# EAGLE library part 1-6605834-1 (library mbed-HDK-Connector)
RJ45
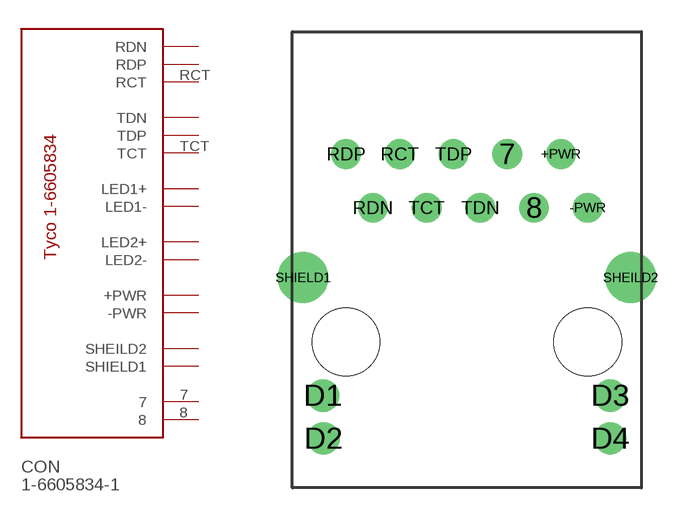
[diagram p0: symbol with the pads of TYCO-1-6605834-1; footprint TYCO-1-6605834-1]

Designator prefix CON

## 1-6605834-1 (MF: TYCO; MFN: 1-6605834-1; OC-DIGIKEY: 1419-1002-ND; OC-MOUSER: 530-1-6605834-1; OC-NEWARK: 48T0576)  [TYCO-1-6605834-1]
7  7
8  8
+PWR  +PWR
-PWR  -PWR
D1  LED1+
D2  LED1-
D3  LED2+
D4  LED2-
RCT  RCT
RDN  RDN
RDP  RDP
SHEILD2  SHEILD2
SHIELD1  SHIELD1
TCT  TCT
TDN  TDN
TDP  TDP

## Footprint TYCO-1-6605834-1 (pad centres in mm)
Tyco 1-6605834-1 RJ45 Jack PoE
drill 0.9: 7 1.905,8.89; 8 3.175,6.35; +PWR 4.445,8.89; -PWR 5.715,6.35; RCT -3.175,8.89; RDN -4.445,6.35; RDP -5.715,8.89; TCT -1.905,6.35; TDN 0.635,6.35; TDP -0.635,8.89
drill 1.016: D1 -6.807,-2.54; D2 -6.782,-4.572; D3 6.782,-2.54; D4 6.782,-4.572
drill 1.6: SHEILD2 7.747,3.048; SHIELD1 -7.747,3.048
hole 3.2 at -5.715,0
hole 3.2 at 5.715,0